# Altium schematic symbol library LM13700M.SchLib: 2 symbols
Pins are listed as number, name and electrical type; pins without a type are passive.

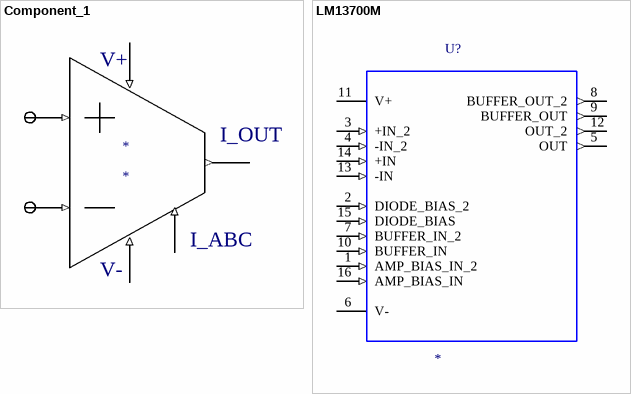
[diagram p0: symbols Component_1 to LM13700M]

## Component_1
designator *
pins: ?1 (in), ?2 (in), ?3 (out), ?4 (in), ?5 (in), ?6 (in)
text: V+; I_OUT; I_ABC; V-

## LM13700M
designator U?
Dual Operational Transconductance Amplifier with Linearizing Diodes and Buffers 16-SOIC 0 to 70; MP: LM13700M; MF: Texas Instruments; Price: None; Availability: Unavailable; Package: SOIC-16 Texas Instruments; SnapEDA_Link: https://www.snapeda.com/parts/LM13700M/Texas%20Instruments/view-part/?ref=snap; Value: *
footprint LM13700LM13700MLM13700LM13700MLM13700PrimaryLM13700
pins: 1 AMP_BIAS_IN_2 (in), 2 DIODE_BIAS_2 (in), 3 +IN_2 (in), 4 -IN_2 (in), 5 OUT (out), 6 V- (power), 7 BUFFER_IN_2 (in), 8 BUFFER_OUT_2 (out), 9 BUFFER_OUT (out), 10 BUFFER_IN (in), 11 V+ (power), 12 OUT_2 (out), 13 -IN (in), 14 +IN (in), 15 DIODE_BIAS (in), 16 AMP_BIAS_IN (in)